# EAGLE library part MPY634KU (library EW_IC_Multipliers)
MPY634 Multiplier/Divider
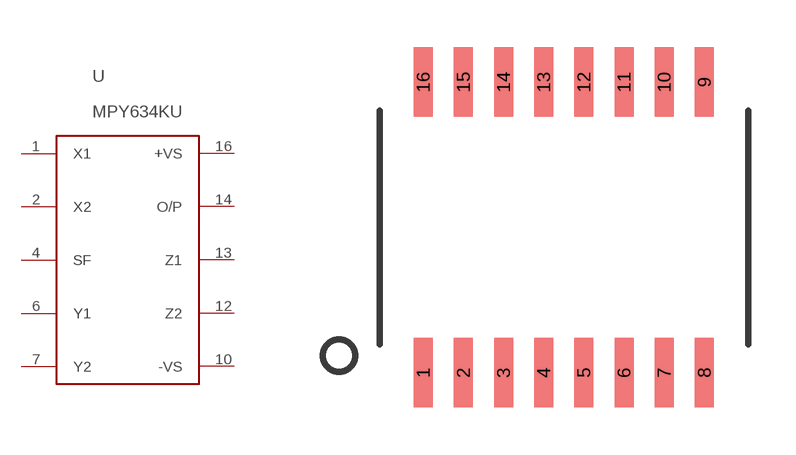
[diagram p0: symbol with the pads of SO16W; footprint SO16W]

Designator prefix U

## MPY634KU  [SO16W]
1  X1
2  X2
4  SF
6  Y1
7  Y2
10  -VS
12  Z2
13  Z1
14  O/P
16  +VS

## Footprint SO16W (pad centres in mm)
SMALL OUTLINE INTEGRATED CIRCUIT wide body 7.5 mm/JEDEC MS-013AA
smd 0.6 x 2.2: 1 -4.445,-4.6; 2 -3.175,-4.6; 3 -1.905,-4.6; 4 -0.635,-4.6; 5 0.635,-4.6; 6 1.905,-4.6; 7 3.175,-4.6; 8 4.445,-4.6; 9 4.445,4.6; 10 3.175,4.6; 11 1.905,4.6; 12 0.635,4.6; 13 -0.635,4.6; 14 -1.905,4.6; 15 -3.175,4.6; 16 -4.445,4.6